# EAGLE library part 74LVC125APW,118 (library 74LVC125APW_118)
Check availability <https://pricing.snapeda.com/parts/74LVC125APW%2C118/Nexperia%20USA%20Inc./view-part?ref=eda>
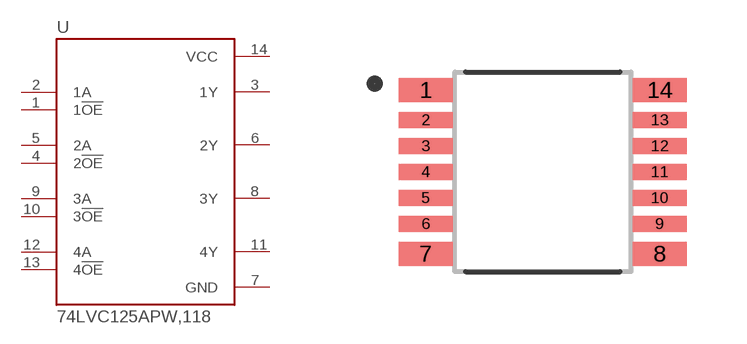
[diagram p0: symbol with the pads of IC_74LVC125APW,118; footprint IC_74LVC125APW,118]

Designator prefix U

## 74LVC125APW,118 (Availability: In Stock; Description: Buffer, Non-Inverting 4 Element 1 Bit per Element 3-State Output 14-TSSOP; MF: Nexperia USA Inc.; MP: 74LVC125APW,118; Package: TSSOP14-14 Nexperia USA Inc.; Price: None; Purchase-URL: https://pricing.snapeda.com/search?q=74LVC125APW,118&ref=eda)  [IC_74LVC125APW,118]
1  1!OE  in
2  1A  in
3  1Y  out
4  2!OE  in
5  2A  in
6  2Y  out
7  GND  pwr
8  3Y  out
9  3A  in
10  3!OE  in
11  4Y  out
12  4A  in
13  4!OE  in
14  VCC  pwr

## Footprint IC_74LVC125APW,118 (pad centres in mm)
smd 1.35 x 0.6: 1 -2.925,2.05; 7 -2.925,-2.05; 8 2.925,-2.05; 14 2.925,2.05
smd 1.35 x 0.4: 2 -2.925,1.3; 3 -2.925,0.65; 4 -2.925,0; 5 -2.925,-0.65; 6 -2.925,-1.3; 9 2.925,-1.3; 10 2.925,-0.65; 11 2.925,0; 12 2.925,0.65; 13 2.925,1.3